# Altium footprint library Lichtschlag.PcbLib: 3 footprints
Each footprint in its own frame and in the unit in brackets; x right, y up, seen from the top. Pads: shape width x height; smd on the part's side, far side on the other; paste and mask are expansions set on the pad; w line width, h text height; cw(c..) or ccw(c..) is an arc to the next point about the centre after c.
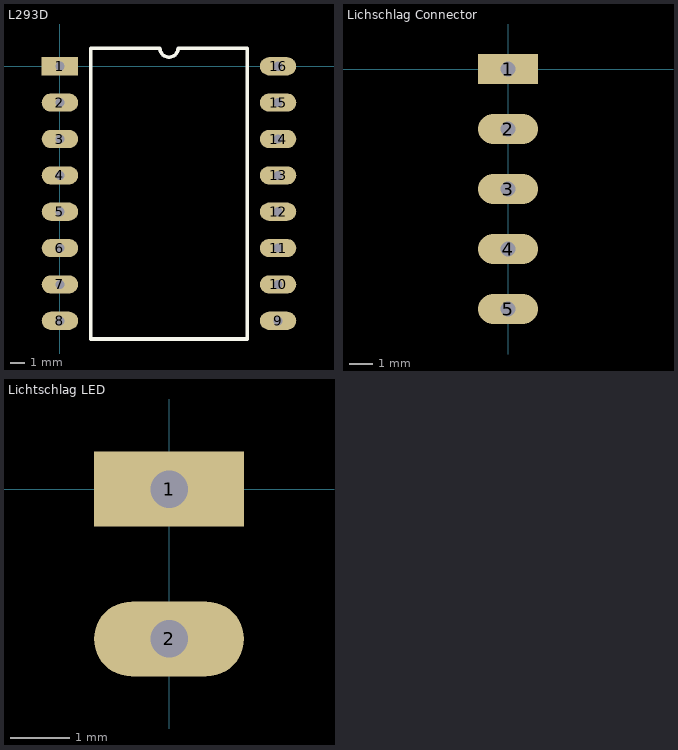
[diagram p0: the footprints below, top view; thin cyan lines are the x and y axes]

## L293D [mil]
pads (16):
  rect 100x50 hole 25: 1(0,0)
  oval 100x50 hole 25: 2(0,-100) 3(0,-200) 4(0,-300) 5(0,-400) 6(0,-500) 7(0,-600) 8(0,-700) 9(600,-700) 10(600,-600) 11(600,-500) 12(600,-400) 13(600,-300) 14(600,-200) 15(600,-100) 16(600,0)
Top Overlay:
  lines w10: 85,-750 515,-750 515,50 325,50 cw(c300,50) 275,50 85,50 85,-750

## Lichschlag Connector [mil]
pads (5):
  rect 100x50 hole 25: 1(0,0)
  oval 100x50 hole 25: 2(0,-100) 3(0,-200) 4(0,-300) 5(0,-400)

## Lichtschlag LED [mil]
pads (2):
  rect 100x50 hole 25: 1(0,0)
  oval 100x50 hole 25: 2(0,-100)